# Altium integrated library WD Peripheral Real Time Clock.IntLib: 2 symbols
Pins are listed as number, name and electrical type; pins without a type are passive.

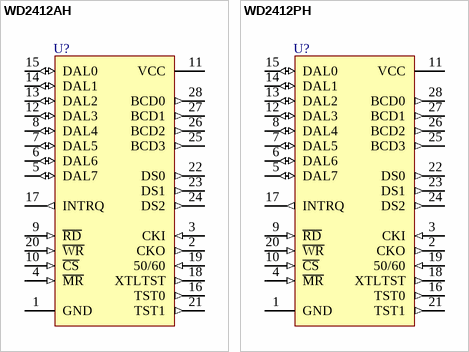
[diagram p0: symbols WD2412AH to WD2412PH]

## WD2412AH
designator U?
Time of Day Clock; PackageDocument: 1984; Published: 8-Jun-2000; LatestRevisionDate: 4-Mar-2005; LatestRevisionNote: Stylized 3D Model Added.; DatasheetDocument: 1984; PackageReference: AH28; Publisher: Altium Limited; ComponentLink1Description: Manufacturer Link; ComponentLink1URL: http://www.wdc.com/
footprint AH28 (DIP; 28 Leads; Row Spacing 15.24 mm; Pitch 2.54 mm)
3D model AH28 (DIP; 28 Leads; Row Spacing 15.24 mm; Pitch 2.54 mm)
pins: 1 GND (power), 2 CKO (out), 3 CKI (in), 4 ~{MR} (in), 5 DAL7 (io), 6 DAL6 (io), 7 DAL5 (io), 8 DAL4 (io), 9 ~{RD} (in), 10 ~{CS} (in), 11 VCC (power), 12 DAL3 (io), 13 DAL2 (io), 14 DAL1 (io), 15 DAL0 (io), 16 TST0 (out), 17 INTRQ (out), 18 XTLTST (out), 19 50/60 (in), 20 ~{WR} (in), 21 TST1 (out), 22 DS0 (out), 23 DS1 (out), 24 DS2 (out), 25 BCD3 (out), 26 BCD2 (out), 27 BCD1 (out), 28 BCD0 (out)

## WD2412PH
designator U?
Time of Day Clock; PackageDocument: 1984; Published: 8-Jun-2000; LatestRevisionDate: 4-Mar-2005; LatestRevisionNote: Stylized 3D Model Added.; DatasheetDocument: 1984; PackageReference: PH28; Publisher: Altium Limited; ComponentLink1Description: Manufacturer Link; ComponentLink1URL: http://www.wdc.com/
footprint PH28 (DIP; 28 Leads; Row Spacing 15.24 mm; Pitch 2.54 mm)
3D model PH28 (DIP; 28 Leads; Row Spacing 15.24 mm; Pitch 2.54 mm)
pins: 1 GND (power), 2 CKO (out), 3 CKI (in), 4 ~{MR} (in), 5 DAL7 (io), 6 DAL6 (io), 7 DAL5 (io), 8 DAL4 (io), 9 ~{RD} (in), 10 ~{CS} (in), 11 VCC (power), 12 DAL3 (io), 13 DAL2 (io), 14 DAL1 (io), 15 DAL0 (io), 16 TST0 (out), 17 INTRQ (out), 18 XTLTST (out), 19 50/60 (in), 20 ~{WR} (in), 21 TST1 (out), 22 DS0 (out), 23 DS1 (out), 24 DS2 (out), 25 BCD3 (out), 26 BCD2 (out), 27 BCD1 (out), 28 BCD0 (out)